# EAGLE library part L293NE (library untitled)
QUADRUPLE HALF-H DRIVERS
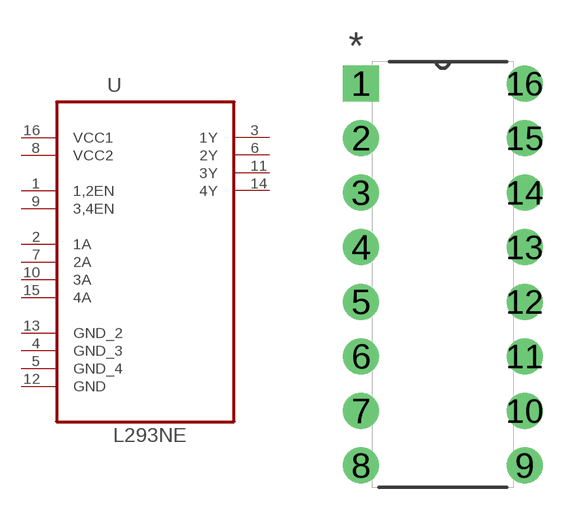
[diagram p1: symbol with the pads of DIP254P762X508-16; footprint DIP254P762X508-16]

Designator prefix U

## L293NE (MPN: L293NE; OC_FARNELL: -; OC_NEWARK: 06F9524; PACKAGE: PDIP-16; SUPPLIER: Texas Instruments)  [DIP254P762X508-16]
1  1,2EN  in
2  1A  in
3  1Y  out
4  GND_3  pas
5  GND_4  pas
6  2Y  out
7  2A  in
8  VCC2  pwr
9  3,4EN  in
10  3A  in
11  3Y  out
12  GND  pas
13  GND_2  pas
14  4Y  out
15  4A  in
16  VCC1  pwr

## Footprint DIP254P762X508-16 (pad centres in mm)
drill 1.118 square: 1 -7.62,17.78
drill 1.118: 2 -7.62,15.24; 3 -7.62,12.7; 4 -7.62,10.16; 5 -7.62,7.62; 6 -7.62,5.08; 7 -7.62,2.54; 8 -7.62,0; 9 0,0; 10 0,2.54; 11 0,5.08; 12 0,7.62; 13 0,10.16; 14 0,12.7; 15 0,15.24; 16 0,17.78